# Altium schematic symbol library DISCRETE_T1.SchLib: 168 symbols
Pins are listed as number, name and electrical type; pins without a type are passive.

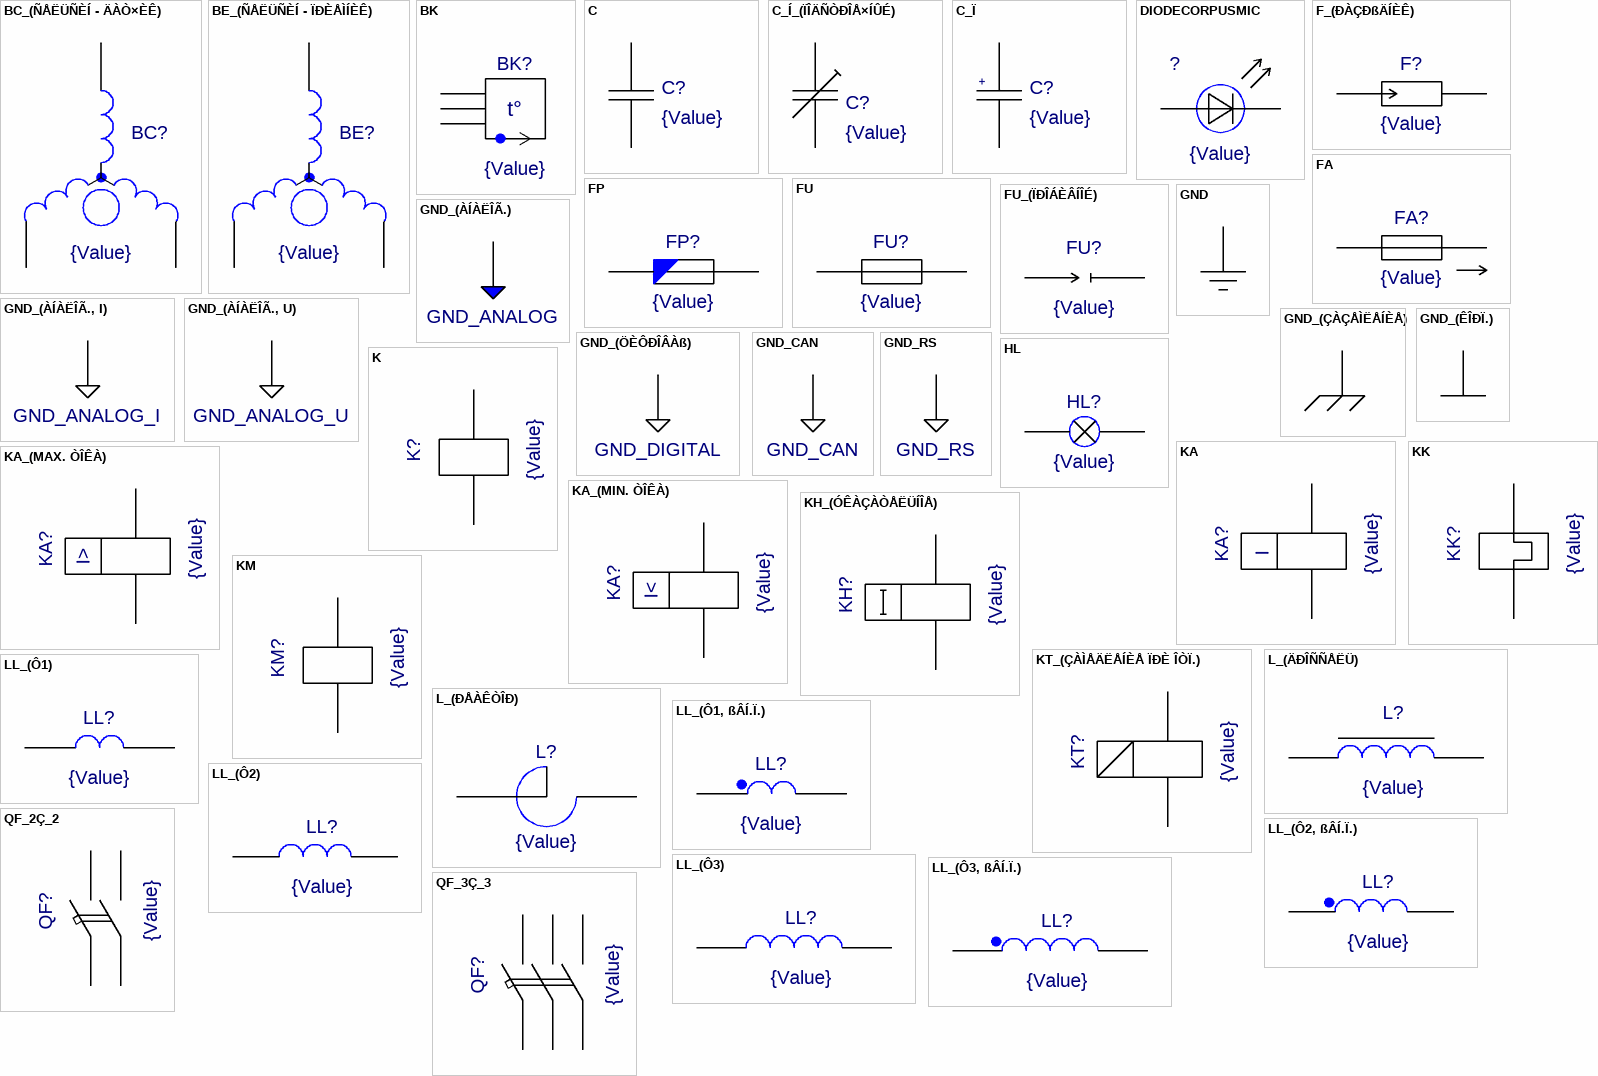
[diagram p0: symbols BC_(ÑÅËÜÑÈÍ - ÄÀÒ×ÈÊ) to QF_3Ç_3]

## BC_(ÑÅËÜÑÈÍ - ÄÀÒ×ÈÊ)
designator BC?  value {Value}  (hidden comment: BC_(ÑÅËÜÑÈÍ - ÄÀÒ×ÈÊ))
pins: A1, A2, A3

## BE_(ÑÅËÜÑÈÍ - ÏÐÈÅÌÍÈÊ)
designator BE?  value {Value}  (hidden comment: BE_(ÑÅËÜÑÈÍ - ÏÐÈÅÌÍÈÊ))
pins: 1 A1, 2 A2, 3 A3

## BK
designator BK?  value {Value}  (hidden comment: BK)
pins: 1 A1, 2 A2, 3 A3
text: t°

## C
designator C?  value {Value}  (hidden comment: C)
pins: A, B

## C_Í_(ÏÎÄÑÒÐÎÅ×ÍÛÉ)
designator C?  value {Value}  (hidden comment: C_Í_(ÏÎÄÑÒÐÎÅ×ÍÛÉ))
pins: 1 A1, 2 A2

## C_Ï
designator C?  value {Value}  (hidden comment: C_Ï)
pins: MINUS A1, PLUS A2
text: +

## DIODECORPUSMIC
designator ?  value {Value}  (hidden comment: DIODECORPUSMIC)
footprint DIODE_CORPUS
pins: 1 A1, 2 A2

## F_(ÐÀÇÐßÄÍÈÊ)
designator F?  value {Value}  (hidden comment: F_(ÐÀÇÐßÄÍÈÊ))
pins: 1 A1, 2 A2

## FA
designator FA?  value {Value}  (hidden comment: FA)
pins: 1 A1, 2 A2

## FP
designator FP?  value {Value}  (hidden comment: FP)
pins: A, B

## FU
designator FU?  value {Value}  (hidden comment: FU)
pins: 1 A1, 2 A2

## FU_(ÏÐÎÁÈÂÍÎÉ)
designator FU?  value {Value}  (hidden comment: FU_(ÏÐÎÁÈÂÍÎÉ))
pins: 1 A1, 2 A2

## GND
designator GND?  (value not drawn)
Value: *
pins: 1 GND (power)

## GND_(ÀÍÀËÎÃ.)
designator GND?  (value not drawn)
Value: *
pins: 1 GND_ANALOG (power)

## GND_(ÀÍÀËÎÃ., I)
designator GND?  (value not drawn)
Value: *
pins: 1 GND_ANALOG_I

## GND_(ÀÍÀËÎÃ., U)
designator GND?  (value not drawn)
Value: *
pins: 1 GND_ANALOG_U

## GND_(ÇÀÇÅÌËÅÍÈÅ)
designator GND?  (value not drawn)
Value: *
pins: 1 GND_EARTH (power)

## GND_(ÊÎÐÏ.)
designator GND?  (value not drawn)
Value: *
pins: 1 GND_FRAME (power)

## GND_(ÖÈÔÐÎÂÀß)
designator GND?  (value not drawn)
Value: *
pins: 1 GND_DIGITAL (power)

## GND_CAN
designator GND?  (value not drawn)
Value: *
pins: 1 GND_CAN (power)

## GND_RS
designator GND?  (value not drawn)
Value: *
pins: 1 GND_RS (power)

## HL
designator HL?  value {Value}  (hidden comment: HL)
pins: A1, A2

## K
designator K?  value {Value}  (hidden comment: K)
pins: A, B

## KA
designator KA?  value {Value}  (hidden comment: KA)
pins: A1, A2
text: I

## KA_(MAX. ÒÎÊÀ)
designator KA?  value {Value}  (hidden comment: KA_(MAX. ÒÎÊÀ))
pins: A1, A2
text: I>

## KA_(MIN. ÒÎÊÀ)
designator KA?  value {Value}  (hidden comment: KA_(MIN. ÒÎÊÀ))
pins: A1, A2
text: I<

## KH_(ÓÊÀÇÀÒÅËÜÍÎÅ)
designator KH?  value {Value}  (hidden comment: KH_(ÓÊÀÇÀÒÅËÜÍÎÅ))
pins: 1 A1, 2 A2

## KK
designator KK?  value {Value}  (hidden comment: KK)
pins: 1 A1, 2 A2

## KM
designator KM?  value {Value}  (hidden comment: KM)
pins: A, B

## KT_(ÇÀÌÅÄËÅÍÈÅ ÏÐÈ ÎÒÏ.)
designator KT?  value {Value}  (hidden comment: KT_(ÇÀÌÅÄËÅÍÈÅ ÏÐÈ ÎÒÏ.))
pins: 1 A1, 2 A2

## L_(ÄÐÎÑÑÅËÜ)
designator L?  value {Value}  (hidden comment: L_(ÄÐÎÑÑÅËÜ))
pins: 1 A1, 2 A2

## L_(ÐÅÀÊÒÎÐ)
designator L?  value {Value}  (hidden comment: L_(ÐÅÀÊÒÎÐ))
pins: 1 A1, 2 A2

## LL_(Ô1)
designator LL?  value {Value}  (hidden comment: LL_(Ô1))
pins: A1, A2

## LL_(Ô1, ßÂÍ.Ï.)
designator LL?  value {Value}  (hidden comment: LL_(Ô1, ßÂÍ.Ï.))
pins: 1 A1, 2 A2

## LL_(Ô2)
designator LL?  value {Value}  (hidden comment: LL_(Ô2))
pins: A1, A2

## LL_(Ô2, ßÂÍ.Ï.)
designator LL?  value {Value}  (hidden comment: LL_(Ô2, ßÂÍ.Ï.))
pins: 1 A1, 2 A2

## LL_(Ô3)
designator LL?  value {Value}  (hidden comment: LL_(Ô3))
pins: A1, A2

## LL_(Ô3, ßÂÍ.Ï.)
designator LL?  value {Value}  (hidden comment: LL_(Ô3, ßÂÍ.Ï.))
pins: 1 A1, 2 A2

## QF_2Ç_2
designator QF?  value {Value}  (hidden comment: QF_2Ç_2)
pins: A1, A2, A3, A4

## QF_3Ç_3
designator QF?  value {Value}  (hidden comment: QF_3Ç_3)
pins: A, B, C, D, E, F

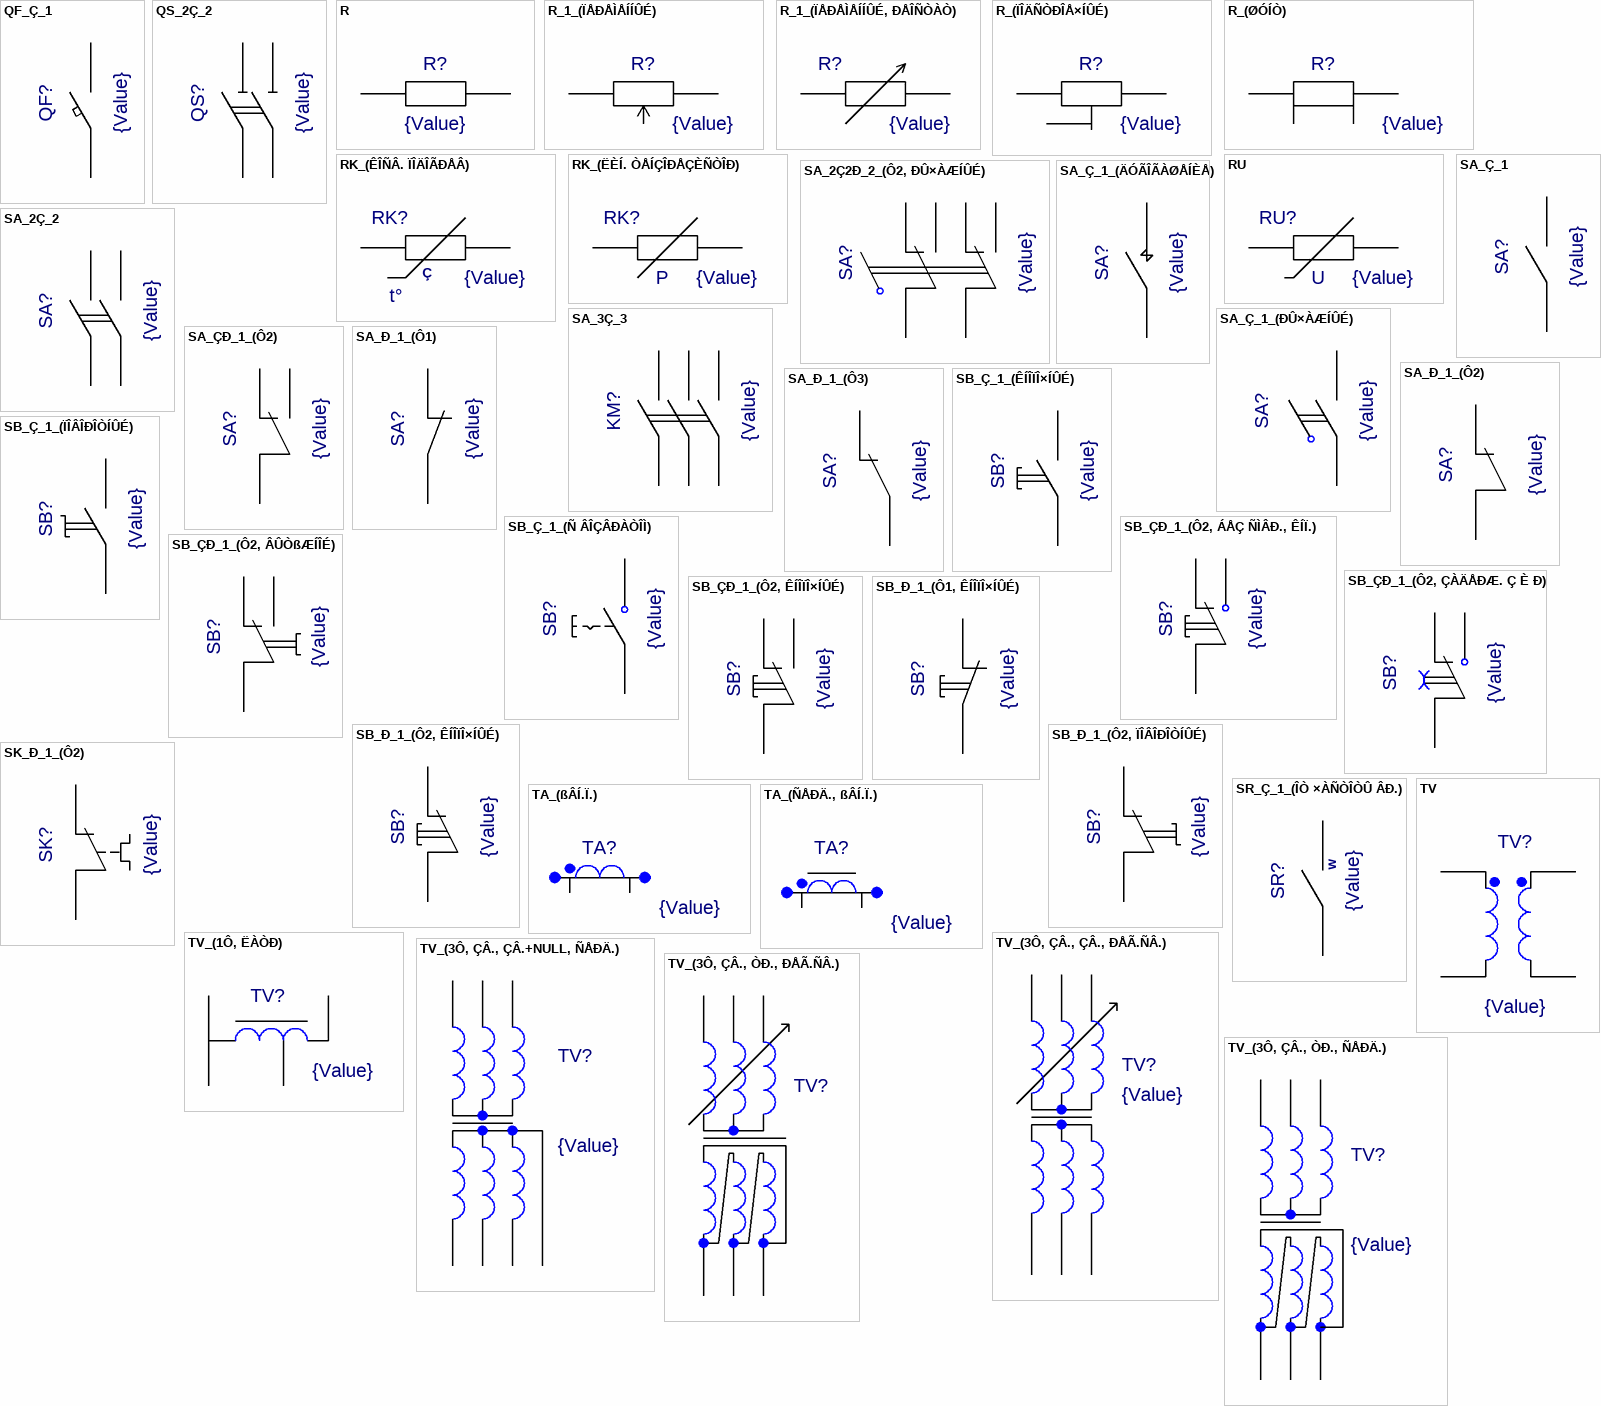
[diagram p1: symbols QF_Ç_1 to TV_(3Ô, ÇÂ., ÒÐ., ÑÅÐÄ.)]

## QF_Ç_1
designator QF?  value {Value}  (hidden comment: QF_Ç_1)
pins: 1 A1, 2 A2

## QS_2Ç_2
designator QS?  value {Value}  (hidden comment: QS_2Ç_2)
pins: A1, A2, A3, A4

## R
designator R?  value {Value}  (hidden comment: R)
pins: A, B

## R_1_(ÏÅÐÅÌÅÍÍÛÉ)
designator R?  value {Value}  (hidden comment: R_1_(ÏÅÐÅÌÅÍÍÛÉ))
pins: 1 A1, 2 A2, 3 A3

## R_1_(ÏÅÐÅÌÅÍÍÛÉ, ÐÅÎÑÒÀÒ)
designator R?  value {Value}  (hidden comment: R_1_(ÏÅÐÅÌÅÍÍÛÉ, ÐÅÎÑÒÀÒ))
pins: 1 A1, 2 A2

## R_(ÏÎÄÑÒÐÎÅ×ÍÛÉ)
designator R?  value {Value}  (hidden comment: R_(ÏÎÄÑÒÐÎÅ×ÍÛÉ))
pins: 1 A1, 2 A2, 3 A3

## R_(ØÓÍÒ)
designator R?  value {Value}  (hidden comment: R_(ØÓÍÒ))
pins: 1 A1, 2 A2, 3 A3, 4 A4

## RK_(ÊÎÑÂ. ÏÎÄÎÃÐÅÂ)
designator RK?  value {Value}  (hidden comment: RK_(ÊÎÑÂ. ÏÎÄÎÃÐÅÂ))
pins: A, B
text: Ç; t°

## RK_(ËÈÍ. ÒÅÍÇÎÐÅÇÈÑÒÎÐ)
designator RK?  value {Value}  (hidden comment: RK_(ËÈÍ. ÒÅÍÇÎÐÅÇÈÑÒÎÐ))
pins: A, B
text: P

## RU
designator RU?  value {Value}  (hidden comment: RU)
pins: A, B
text: U

## SA_2Ç2Ð_2_(Ô2, ÐÛ×ÀÆÍÛÉ)
designator SA?  value {Value}  (hidden comment: SA_2Ç2Ð_2_(Ô2, ÐÛ×ÀÆÍÛÉ))
pins: A1, A2, A3, A4, A5, A6

## SA_2Ç_2
designator SA?  value {Value}  (hidden comment: SA_2Ç_2)
pins: A1, A2, A3, A4

## SA_3Ç_3
designator KM?  value {Value}  (hidden comment: SA_3Ç_3)
pins: a, b, c, d, e, f

## SA_Ç_1
designator SA?  value {Value}  (hidden comment: SA_Ç_1)
pins: A, B

## SA_Ç_1_(ÄÓÃÎÃÀØÅÍÈÅ)
designator SA?  value {Value}  (hidden comment: SA_Ç_1_(ÄÓÃÎÃÀØÅÍÈÅ))
pins: 1 A1, 2 A2

## SA_Ç_1_(ÐÛ×ÀÆÍÛÉ)
designator SA?  value {Value}  (hidden comment: SA_Ç_1_(ÐÛ×ÀÆÍÛÉ))
pins: A1, A2

## SA_ÇÐ_1_(Ô2)
designator SA?  value {Value}  (hidden comment: SA_ÇÐ_1_(Ô2))
pins: A1, A2, A3

## SA_Ð_1_(Ô1)
designator SA?  value {Value}  (hidden comment: SA_Ð_1_(Ô1))
pins: A, B

## SA_Ð_1_(Ô2)
designator SA?  value {Value}  (hidden comment: SA_Ð_1_(Ô2))
pins: A, B

## SA_Ð_1_(Ô3)
designator SA?  value {Value}  (hidden comment: SA_Ð_1_(Ô3))
pins: A, B

## SB_Ç_1_(ÊÍÎÏÎ×ÍÛÉ)
designator SB?  value {Value}  (hidden comment: SB_Ç_1_(ÊÍÎÏÎ×ÍÛÉ))
pins: A, B

## SB_Ç_1_(ÏÎÂÎÐÎÒÍÛÉ)
designator SB?  value {Value}  (hidden comment: SB_Ç_1_(ÏÎÂÎÐÎÒÍÛÉ))
pins: A, B

## SB_Ç_1_(Ñ ÂÎÇÂÐÀÒÎÌ)
designator SB?  value {Value}  (hidden comment: SB_Ç_1_(Ñ ÂÎÇÂÐÀÒÎÌ))
pins: A, B

## SB_ÇÐ_1_(Ô2, ÁÅÇ ÑÌÂÐ., ÊÍÏ.)
designator SB?  value {Value}  (hidden comment: SB_ÇÐ_1_(Ô2, ÁÅÇ ÑÌÂÐ., ÊÍÏ.))
pins: A1, A2, A3

## SB_ÇÐ_1_(Ô2, ÂÛÒßÆÍÎÉ)
designator SB?  value {Value}  (hidden comment: SB_ÇÐ_1_(Ô2, ÂÛÒßÆÍÎÉ))
pins: A1, A2, A3

## SB_ÇÐ_1_(Ô2, ÇÀÄÅÐÆ. Ç È Ð)
designator SB?  value {Value}  (hidden comment: SB_ÇÐ_1_(Ô2, ÇÀÄÅÐÆ. Ç È Ð))
pins: 1 A1, 2 A2, 3 A3

## SB_ÇÐ_1_(Ô2, ÊÍÎÏÎ×ÍÛÉ)
designator SB?  value {Value}  (hidden comment: SB_ÇÐ_1_(Ô2, ÊÍÎÏÎ×ÍÛÉ))
pins: A1, A2, A3

## SB_Ð_1_(Ô1, ÊÍÎÏÎ×ÍÛÉ)
designator SB?  value {Value}  (hidden comment: SB_Ð_1_(Ô1, ÊÍÎÏÎ×ÍÛÉ))
pins: a, b

## SB_Ð_1_(Ô2, ÊÍÎÏÎ×ÍÛÉ)
designator SB?  value {Value}  (hidden comment: SB_Ð_1_(Ô2, ÊÍÎÏÎ×ÍÛÉ))
pins: 1 A1, 2 A2

## SB_Ð_1_(Ô2, ÏÎÂÎÐÎÒÍÛÉ)
designator SB?  value {Value}  (hidden comment: SB_Ð_1_(Ô2, ÏÎÂÎÐÎÒÍÛÉ))
pins: A, B

## SK_Ð_1_(Ô2)
designator SK?  value {Value}  (hidden comment: SK_Ð_1_(Ô2))
pins: 1 A1, 2 A2

## SR_Ç_1_(ÎÒ ×ÀÑÒÎÒÛ ÂÐ.)
designator SR?  value {Value}  (hidden comment: SR_Ç_1_(ÎÒ ×ÀÑÒÎÒÛ ÂÐ.))
pins: A1, A2
text: w

## TA_(ßÂÍ.Ï.)
designator TA?  value {Value}  (hidden comment: TA_(ßÂÍ.Ï.))
pins: 1 A1, 2 A2

## TA_(ÑÅÐÄ., ßÂÍ.Ï.)
designator TA?  value {Value}  (hidden comment: TA_(ÑÅÐÄ., ßÂÍ.Ï.))
pins: 1 A1, 2 A2

## TV
designator TV?  value {Value}  (hidden comment: TV)
pins: 1 A1, 2 A2, 3 A3, 4 A4

## TV_(1Ô, ËÀÒÐ)
designator TV?  value {Value}  (hidden comment: TV_(1Ô, ËÀÒÐ))
pins: 1 A1, 2 A2, 3 A3, 4 A4

## TV_(3Ô, ÇÂ., ÇÂ.+NULL, ÑÅÐÄ.)
designator TV?  value {Value}  (hidden comment: TV_(3Ô, ÇÂ., ÇÂ.+NULL, ÑÅÐÄ.))
pins: 1 A1, 2 A2, 3 A3, 4 A4, 5 A5, 6 A6, 7 A7

## TV_(3Ô, ÇÂ., ÇÂ., ÐÅÃ.ÑÂ.)
designator TV?  value {Value}  (hidden comment: TV_(3Ô, ÇÂ., ÇÂ., ÐÅÃ.ÑÂ.))
pins: 1 A1, 2 A2, 3 A3, 4 A4, 5 A5, 6 A6

## TV_(3Ô, ÇÂ., ÒÐ., ÐÅÃ.ÑÂ.)
designator TV?  (value not drawn)
Value: *
pins: 1 A1, 2 A2, 3 A3, 4 A4, 5 A5, 6 A6

## TV_(3Ô, ÇÂ., ÒÐ., ÑÅÐÄ.)
designator TV?  value {Value}  (hidden comment: TV_(3Ô, ÇÂ., ÒÐ., ÑÅÐÄ.))
pins: 1 A1, 2 A2, 3 A3, 4 A4, 5 A5, 6 A6

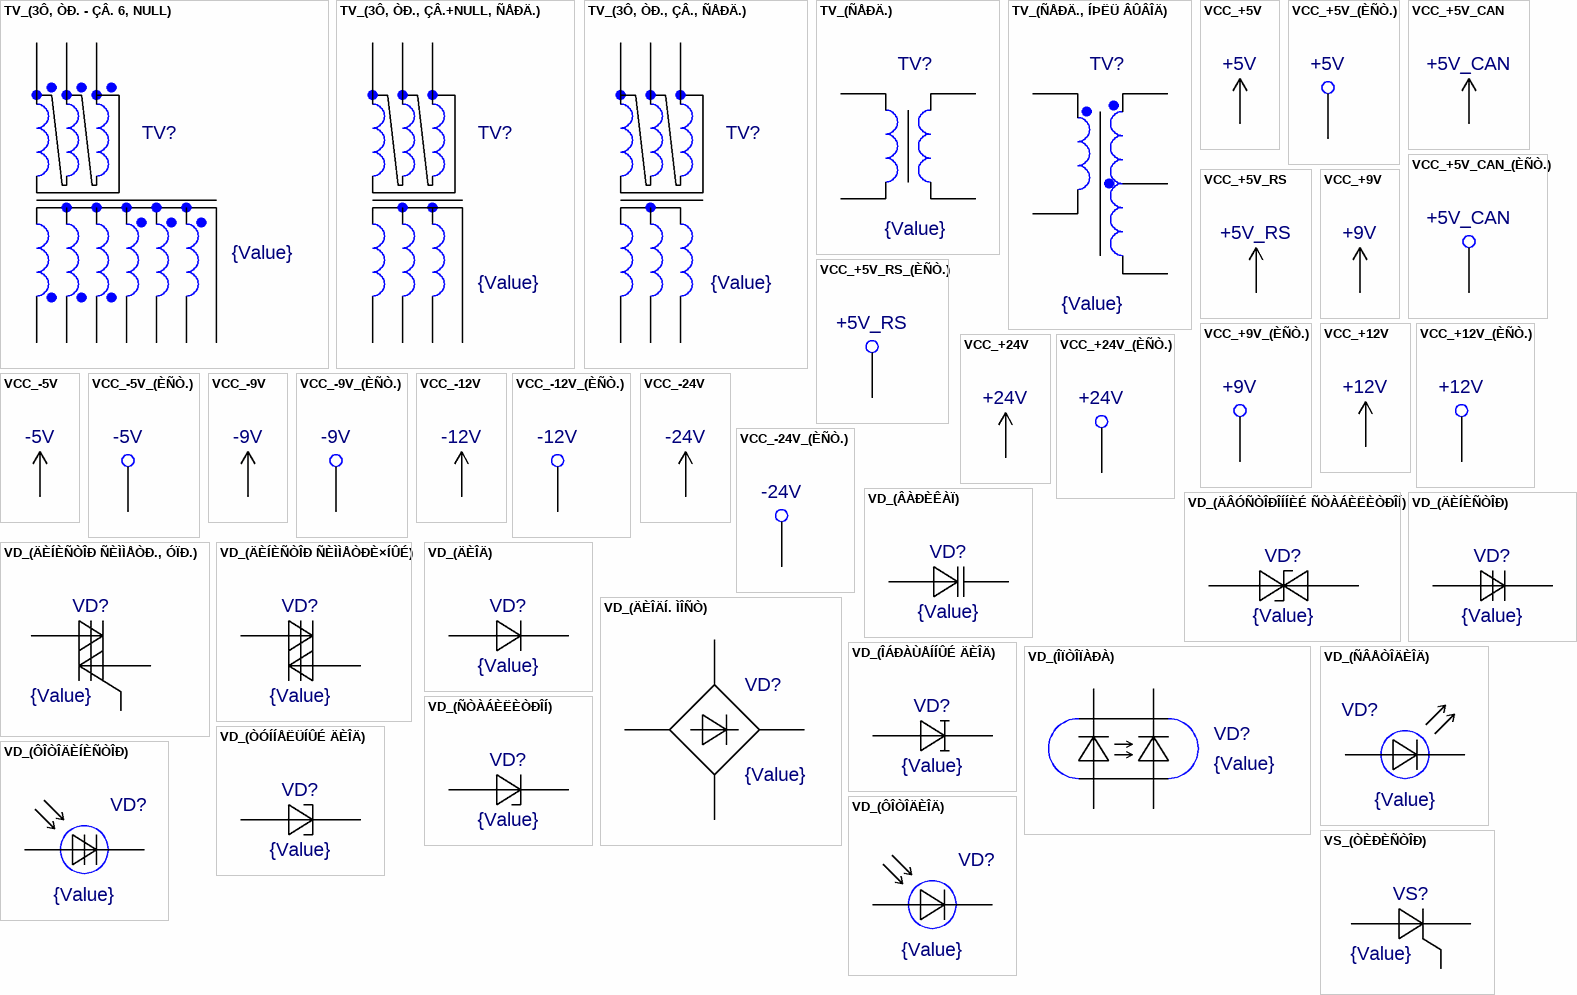
[diagram p2: symbols TV_(3Ô, ÒÐ. - ÇÂ. 6, NULL) to VS_(ÒÈÐÈÑÒÎÐ)]

## TV_(3Ô, ÒÐ. - ÇÂ. 6, NULL)
designator TV?  value {Value}  (hidden comment: TV_(3Ô, ÒÐ. - ÇÂ. 6, NULL))
pins: 1 A1, 2 A2, 3 A3, 4 A4, 5 A5, 6 A6, 7 A7, 8 A8, 9 A9, 10 A10

## TV_(3Ô, ÒÐ., ÇÂ.+NULL, ÑÅÐÄ.)
designator TV?  value {Value}  (hidden comment: TV_(3Ô, ÒÐ., ÇÂ.+NULL, ÑÅÐÄ.))
pins: 1 A1, 2 A2, 3 A3, 4 A4, 5 A5, 6 A6, 7 A7

## TV_(3Ô, ÒÐ., ÇÂ., ÑÅÐÄ.)
designator TV?  value {Value}  (hidden comment: TV_(3Ô, ÒÐ., ÇÂ., ÑÅÐÄ.))
pins: 1 A1, 2 A2, 3 A3, 4 A4, 5 A5, 6 A6

## TV_(ÑÅÐÄ.)
designator TV?  value {Value}  (hidden comment: TV_(ÑÅÐÄ.))
pins: A1, A2, A3, A4

## TV_(ÑÅÐÄ., ÍÞËÜ ÂÛÂÎÄ)
designator TV?  value {Value}  (hidden comment: TV_(ÑÅÐÄ., ÍÞËÜ ÂÛÂÎÄ))
pins: 1 A1, 2 A2, 3 A3, 4 A4, 5 A5

## VCC_+5V
designator VCC?  (value not drawn)
Value: *
pins: 1 VCC_+5V (power)
text: +5V

## VCC_+5V_(ÈÑÒ.)
designator VCC?  (value not drawn)
Value: *
pins: 1 VCC_+5V (power)
text: +5V

## VCC_+5V_CAN
designator VCC?  (value not drawn)
Value: *
pins: 1 VCC_+5V_CAN (power)
text: +5V_CAN

## VCC_+5V_CAN_(ÈÑÒ.)
designator VCC?  (value not drawn)
Value: *
pins: 1 VCC_+5V_CAN (power)
text: +5V_CAN

## VCC_+5V_RS
designator VCC?  (value not drawn)
Value: *
pins: 1 VCC_+5V_RS (power)
text: +5V_RS

## VCC_+5V_RS_(ÈÑÒ.)
designator VCC?  (value not drawn)
Value: *
pins: 1 VCC_+5V_RS (power)
text: +5V_RS

## VCC_+9V
designator VCC?  (value not drawn)
Value: *
pins: 1 VCC_+9V (power)
text: +9V

## VCC_+9V_(ÈÑÒ.)
designator VCC?  (value not drawn)
Value: *
pins: 1 VCC_+9V (power)
text: +9V

## VCC_+12V
designator VCC?  (value not drawn)
Value: *
pins: 1 VCC_+12V (power)
text: +12V

## VCC_+12V_(ÈÑÒ.)
designator VCC?  (value not drawn)
Value: *
pins: 1 VCC_+12V (power)
text: +12V

## VCC_+24V
designator VCC?  (value not drawn)
Value: *
pins: 1 VCC_+24V (power)
text: +24V

## VCC_+24V_(ÈÑÒ.)
designator VCC?  (value not drawn)
Value: *
pins: 1 VCC_+24V (power)
text: +24V

## VCC_-5V
designator VCC?  (value not drawn)
Value: *
pins: 1 VCC_-5V (power)
text: -5V

## VCC_-5V_(ÈÑÒ.)
designator VCC?  (value not drawn)
Value: *
pins: 1 VCC_-5V (power)
text: -5V

## VCC_-9V
designator VCC?  (value not drawn)
Value: *
pins: 1 VCC_-9V (power)
text: -9V

## VCC_-9V_(ÈÑÒ.)
designator VCC?  (value not drawn)
Value: *
pins: 1 VCC_-9V (power)
text: -9V

## VCC_-12V
designator VCC?  (value not drawn)
Value: *
pins: 1 VCC_-12V (power)
text: -12V

## VCC_-12V_(ÈÑÒ.)
designator VCC?  (value not drawn)
Value: *
pins: 1 VCC_-12V (power)
text: -12V

## VCC_-24V
designator VCC?  (value not drawn)
Value: *
pins: 1 VCC_-24V (power)
text: -24V

## VCC_-24V_(ÈÑÒ.)
designator VCC?  (value not drawn)
Value: *
pins: 1 VCC_-24V (power)
text: -24V

## VD_(ÂÀÐÈÊÀÏ)
designator VD?  value {Value}  (hidden comment: VD_(ÂÀÐÈÊÀÏ))
pins: A1, A2

## VD_(ÄÂÓÑÒÎÐÎÍÍÈÉ ÑÒÀÁÈËÈÒÐÎÍ)
designator VD?  value {Value}  (hidden comment: VD_(ÄÂÓÑÒÎÐÎÍÍÈÉ ÑÒÀÁÈËÈÒÐÎÍ))
pins: A1, A2

## VD_(ÄÈÍÈÑÒÎÐ ÑÈÌÌÅÒÐ., ÓÏÐ.)
designator VD?  value {Value}  (hidden comment: VD_(ÄÈÍÈÑÒÎÐ ÑÈÌÌÅÒÐ., ÓÏÐ.))
pins: A1, A2, A3

## VD_(ÄÈÍÈÑÒÎÐ ÑÈÌÌÅÒÐÈ×ÍÛÉ)
designator VD?  value {Value}  (hidden comment: VD_(ÄÈÍÈÑÒÎÐ ÑÈÌÌÅÒÐÈ×ÍÛÉ))
pins: A1, A2

## VD_(ÄÈÍÈÑÒÎÐ)
designator VD?  value {Value}  (hidden comment: VD_(ÄÈÍÈÑÒÎÐ))
pins: A1, A2

## VD_(ÄÈÎÄ)
designator VD?  value {Value}  (hidden comment: VD_(ÄÈÎÄ))
pins: A1, A2

## VD_(ÄÈÎÄÍ. ÌÎÑÒ)
designator VD?  value {Value}  (hidden comment: VD_(ÄÈÎÄÍ. ÌÎÑÒ))
pins: 1 A1, 2 A2, 3 A3, 4 A4

## VD_(ÎÁÐÀÙÅÍÍÛÉ ÄÈÎÄ)
designator VD?  value {Value}  (hidden comment: VD_(ÎÁÐÀÙÅÍÍÛÉ ÄÈÎÄ))
pins: A1, A2

## VD_(ÎÏÒÎÏÀÐÀ)
designator VD?  value {Value}  (hidden comment: VD_(ÎÏÒÎÏÀÐÀ))
pins: 1 A1, 2 A2, 3 A3, 4 A4

## VD_(ÑÂÅÒÎÄÈÎÄ)
designator VD?  value {Value}  (hidden comment: VD_(ÑÂÅÒÎÄÈÎÄ))
pins: A1, A2

## VD_(ÑÒÀÁÈËÈÒÐÎÍ)
designator VD?  value {Value}  (hidden comment: VD_(ÑÒÀÁÈËÈÒÐÎÍ))
pins: A1, A2

## VD_(ÒÓÍÍÅËÜÍÛÉ ÄÈÎÄ)
designator VD?  value {Value}  (hidden comment: VD_(ÒÓÍÍÅËÜÍÛÉ ÄÈÎÄ))
pins: A1, A2

## VD_(ÔÎÒÎÄÈÍÈÑÒÎÐ)
designator VD?  value {Value}  (hidden comment: VD_(ÔÎÒÎÄÈÍÈÑÒÎÐ))
pins: A1, A2

## VD_(ÔÎÒÎÄÈÎÄ)
designator VD?  value {Value}  (hidden comment: VD_(ÔÎÒÎÄÈÎÄ))
pins: A1, A2

## VS_(ÒÈÐÈÑÒÎÐ)
designator VS?  value {Value}  (hidden comment: VS_(ÒÈÐÈÑÒÎÐ))
pins: A1, A2, A3

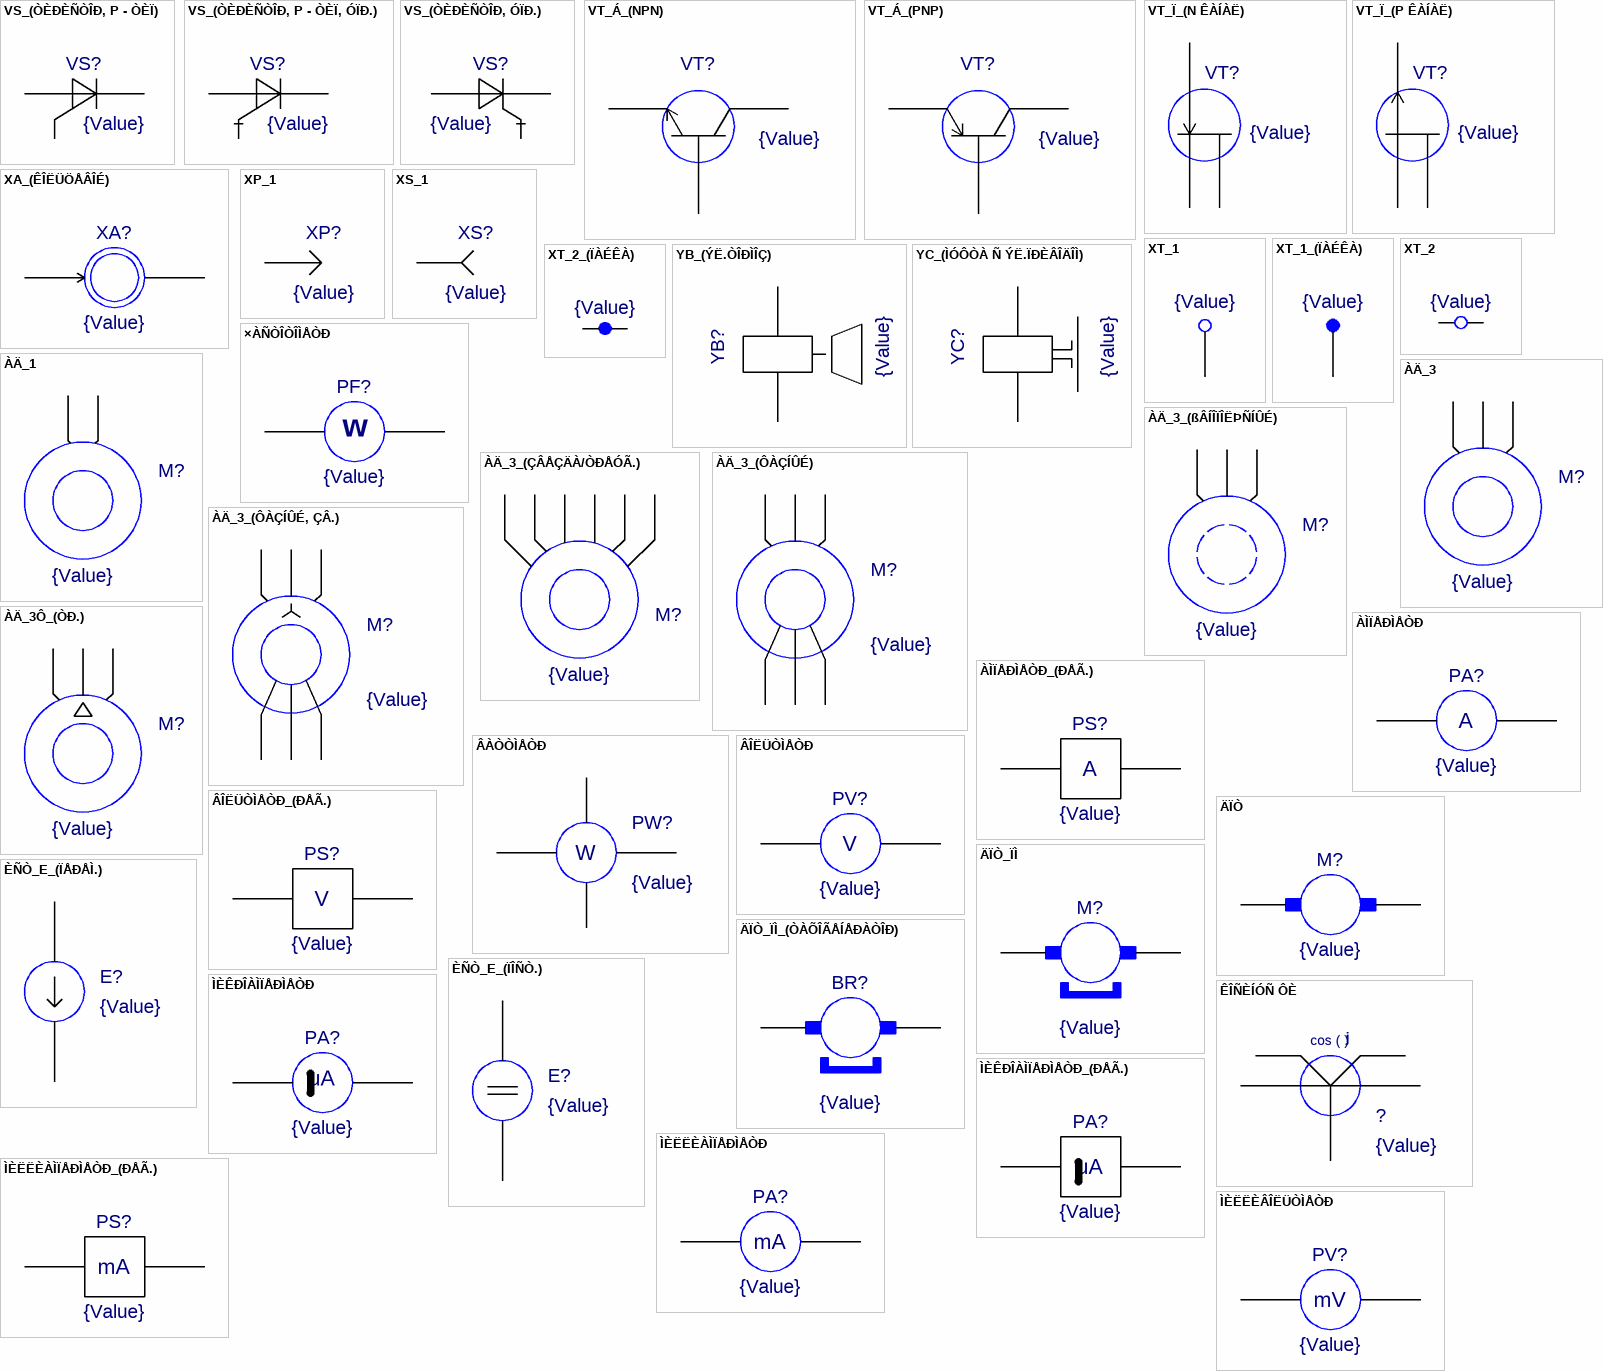
[diagram p3: symbols VS_(ÒÈÐÈÑÒÎÐ, P - ÒÈÏ) to ÌÈËËÈÂÎËÜÒÌÅÒÐ]

## VS_(ÒÈÐÈÑÒÎÐ, P - ÒÈÏ)
designator VS?  value {Value}  (hidden comment: VS_(ÒÈÐÈÑÒÎÐ, P - ÒÈÏ))
pins: A1, A2, A3

## VS_(ÒÈÐÈÑÒÎÐ, P - ÒÈÏ, ÓÏÐ.)
designator VS?  value {Value}  (hidden comment: VS_(ÒÈÐÈÑÒÎÐ, P - ÒÈÏ, ÓÏÐ.))
pins: A1, A2, A3

## VS_(ÒÈÐÈÑÒÎÐ, ÓÏÐ.)
designator VS?  value {Value}  (hidden comment: VS_(ÒÈÐÈÑÒÎÐ, ÓÏÐ.))
pins: A1, A2, A3

## VT_Á_(NPN)
designator VT?  value {Value}  (hidden comment: VT_Á_(NPN))
pins: 1 A1, 2 A2, 3 A3

## VT_Á_(PNP)
designator VT?  value {Value}  (hidden comment: VT_Á_(PNP))
pins: 1 A1, 2 A2, 3 A3

## VT_Ï_(N ÊÀÍÀË)
designator VT?  value {Value}  (hidden comment: VT_Ï_(N ÊÀÍÀË))
pins: 1 A1, 2 A2, 3 A3

## VT_Ï_(P ÊÀÍÀË)
designator VT?  value {Value}  (hidden comment: VT_Ï_(P ÊÀÍÀË))
pins: 1 A1, 2 A2, 3 A3

## XA_(ÊÎËÜÖÅÂÎÉ)
designator XA?  value {Value}  (hidden comment: XA_(ÊÎËÜÖÅÂÎÉ))
pins: 1 A1, 2 A2

## XP_1
designator XP?  value {Value}  (hidden comment: XP_1)
pins: A1

## XS_1
designator XS?  value {Value}  (hidden comment: XS_1)
pins: A1

## XT_1
designator XT?  value {Value}  (hidden comment: XT_1)
pins: A1

## XT_1_(ÏÀÉÊÀ)
designator XT?  value {Value}  (hidden comment: XT_1_(ÏÀÉÊÀ))
pins: 1 A1

## XT_2
designator XT?  value {Value}  (hidden comment: XT_2)
pins: A1, A2

## XT_2_(ÏÀÉÊÀ)
designator XT?  value {Value}  (hidden comment: XT_2_(ÏÀÉÊÀ))
pins: 1 A1, 2 A2

## YB_(ÝË.ÒÎÐÌÎÇ)
designator YB?  value {Value}  (hidden comment: YB_(ÝË.ÒÎÐÌÎÇ))
pins: 1 A1, 2 A2

## YC_(ÌÓÔÒÀ Ñ ÝË.ÏÐÈÂÎÄÎÌ)
designator YC?  value {Value}  (hidden comment: YC_(ÌÓÔÒÀ Ñ ÝË.ÏÐÈÂÎÄÎÌ))
pins: 1 A1, 2 A2

## ×ÀÑÒÎÒÎÌÅÒÐ
designator PF?  value {Value}  (hidden comment: ×ÀÑÒÎÒÎÌÅÒÐ)
pins: A1, A2
text: w

## ÀÄ_1
designator M?  value {Value}  (hidden comment: ÀÄ_1)
pins: A1, A2

## ÀÄ_3
designator M?  value {Value}  (hidden comment: ÀÄ_3)
pins: A1, A2, A3

## ÀÄ_3_(ßÂÍÎÏÎËÞÑÍÛÉ)
designator M?  value {Value}  (hidden comment: ÀÄ_3_(ßÂÍÎÏÎËÞÑÍÛÉ))
pins: A1, A2, A3

## ÀÄ_3_(ÇÂÅÇÄÀ/ÒÐÅÓÃ.)
designator M?  value {Value}  (hidden comment: ÀÄ_3_(ÇÂÅÇÄÀ/ÒÐÅÓÃ.))
pins: A1, A2, A3, A4, A5, A6

## ÀÄ_3_(ÔÀÇÍÛÉ)
designator M?  value {Value}  (hidden comment: ÀÄ_3_(ÔÀÇÍÛÉ))
pins: 1 A1, 2 A2, 3 A3, 4 A4, 5 A5, 6 A6

## ÀÄ_3_(ÔÀÇÍÛÉ, ÇÂ.)
designator M?  value {Value}  (hidden comment: ÀÄ_3_(ÔÀÇÍÛÉ, ÇÂ.))
pins: A1, A2, A3, A4, A5, A6

## ÀÄ_3Ô_(ÒÐ.)
designator M?  value {Value}  (hidden comment: ÀÄ_3Ô_(ÒÐ.))
pins: 1 A1, 2 A2, 3 A3

## ÀÌÏÅÐÌÅÒÐ
designator PA?  value {Value}  (hidden comment: ÀÌÏÅÐÌÅÒÐ)
pins: A1, A2
text: A

## ÀÌÏÅÐÌÅÒÐ_(ÐÅÃ.)
designator PS?  value {Value}  (hidden comment: ÀÌÏÅÐÌÅÒÐ_(ÐÅÃ.))
pins: 1 A1, 2 A2
text: A

## ÂÀÒÒÌÅÒÐ
designator PW?  value {Value}  (hidden comment: ÂÀÒÒÌÅÒÐ)
pins: 1 A1, 2 A2, 3 A3, 4 A4
text: W

## ÂÎËÜÒÌÅÒÐ
designator PV?  value {Value}  (hidden comment: ÂÎËÜÒÌÅÒÐ)
pins: A1, A2
text: V

## ÂÎËÜÒÌÅÒÐ_(ÐÅÃ.)
designator PS?  value {Value}  (hidden comment: ÂÎËÜÒÌÅÒÐ_(ÐÅÃ.))
pins: 1 A1, 2 A2
text: V

## ÄÏÒ
designator M?  value {Value}  (hidden comment: ÄÏÒ)
pins: A1, A2

## ÄÏÒ_ÏÌ
designator M?  value {Value}  (hidden comment: ÄÏÒ_ÏÌ)
pins: A1, A2

## ÄÏÒ_ÏÌ_(ÒÀÕÎÃÅÍÅÐÀÒÎÐ)
designator BR?  value {Value}  (hidden comment: ÄÏÒ_ÏÌ_(ÒÀÕÎÃÅÍÅÐÀÒÎÐ))
pins: 1 A1, 2 A2

## ÈÑÒ_E_(ÏÅÐÅÌ.)
designator E?  value {Value}  (hidden comment: ÈÑÒ_E_(ÏÅÐÅÌ.))
pins: 1 A1, 2 A2

## ÈÑÒ_E_(ÏÎÑÒ.)
designator E?  value {Value}  (hidden comment: ÈÑÒ_E_(ÏÎÑÒ.))
pins: 1 A1, 2 A2

## ÊÎÑÈÍÓÑ ÔÈ
designator ?  value {Value}  (hidden comment: ÊÎÑÈÍÓÑ ÔÈ)
pins: 1 A1, 2 A2, 3 A3, 4 A4, 5 A5
text: cos ( ); j

## ÌÈÊÐÎÀÌÏÅÐÌÅÒÐ
designator PA?  value {Value}  (hidden comment: ÌÈÊÐÎÀÌÏÅÐÌÅÒÐ)
pins: 1 A1, 2 A2
text: uA

## ÌÈÊÐÎÀÌÏÅÐÌÅÒÐ_(ÐÅÃ.)
designator PA?  value {Value}  (hidden comment: ÌÈÊÐÎÀÌÏÅÐÌÅÒÐ_(ÐÅÃ.))
pins: 1 A1, 2 A2
text: uA

## ÌÈËËÈÀÌÏÅÐÌÅÒÐ
designator PA?  value {Value}  (hidden comment: ÌÈËËÈÀÌÏÅÐÌÅÒÐ)
pins: A1, A2
text: mA

## ÌÈËËÈÀÌÏÅÐÌÅÒÐ_(ÐÅÃ.)
designator PS?  value {Value}  (hidden comment: ÌÈËËÈÀÌÏÅÐÌÅÒÐ_(ÐÅÃ.))
pins: 1 A1, 2 A2
text: mA

## ÌÈËËÈÂÎËÜÒÌÅÒÐ
designator PV?  value {Value}  (hidden comment: ÌÈËËÈÂÎËÜÒÌÅÒÐ)
pins: 1 A1, 2 A2
text: mV

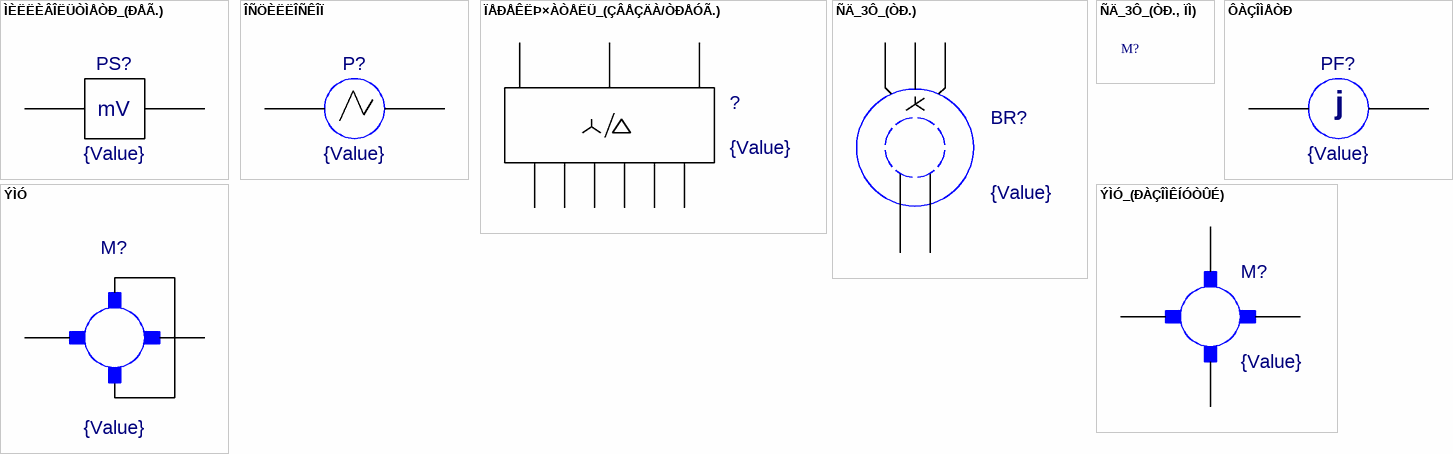
[diagram p4: symbols ÌÈËËÈÂÎËÜÒÌÅÒÐ_(ÐÅÃ.) to ÝÌÓ_(ÐÀÇÎÌÊÍÓÒÛÉ)]

## ÌÈËËÈÂÎËÜÒÌÅÒÐ_(ÐÅÃ.)
designator PS?  value {Value}  (hidden comment: ÌÈËËÈÂÎËÜÒÌÅÒÐ_(ÐÅÃ.))
pins: 1 A1, 2 A2
text: mV

## ÎÑÖÈËËÎÑÊÎÏ
designator P?  value {Value}  (hidden comment: ÎÑÖÈËËÎÑÊÎÏ)
pins: 1 A1, 2 A2

## ÏÅÐÅÊËÞ×ÀÒÅËÜ_(ÇÂÅÇÄÀ/ÒÐÅÓÃ.)
designator ?  value {Value}  (hidden comment: ÏÅÐÅÊËÞ×ÀÒÅËÜ_(ÇÂÅÇÄÀ/ÒÐÅÓÃ.))
pins: A1, A2, A3, A4, A5, A6, A7, A8, A9

## ÑÄ_3Ô_(ÒÐ.)
designator BR?  value {Value}  (hidden comment: ÑÄ_3Ô_(ÒÐ.))
pins: 1 A1, 2 A2, 3 A3, 4 A4, 5 A5

## ÑÄ_3Ô_(ÒÐ., ÏÌ)
designator M?  (value not drawn)
Value: *

## ÔÀÇÎÌÅÒÐ
designator PF?  value {Value}  (hidden comment: ÔÀÇÎÌÅÒÐ)
pins: 1 A1, 2 A2
text: j

## ÝÌÓ
designator M?  value {Value}  (hidden comment: ÝÌÓ)
pins: 1 A1, 2 A2

## ÝÌÓ_(ÐÀÇÎÌÊÍÓÒÛÉ)
designator M?  value {Value}  (hidden comment: ÝÌÓ_(ÐÀÇÎÌÊÍÓÒÛÉ))
pins: 1 A1, 2 A2, 3 A3, 4 A4